# Altium schematic symbol library USB_CONN.SchLib: 1 symbol
Pins are listed as number, name and electrical type; pins without a type are passive.

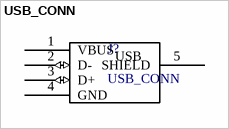
[diagram p0: symbol USB_CONN]

## USB_CONN
designator J?
USB connector symbol
pins: 1 VBUS (power), 2 D- (io), 3 D+ (io), 4 GND (power), 5 SHIELD
text: USB